# EAGLE library part SN74CB3T3384 (library mille-feuille)
10-Bit FET Bus Switch 2.5-V/3.3-V Low-Voltage Bus Switch with 5-V-Tolerant Level Shifter
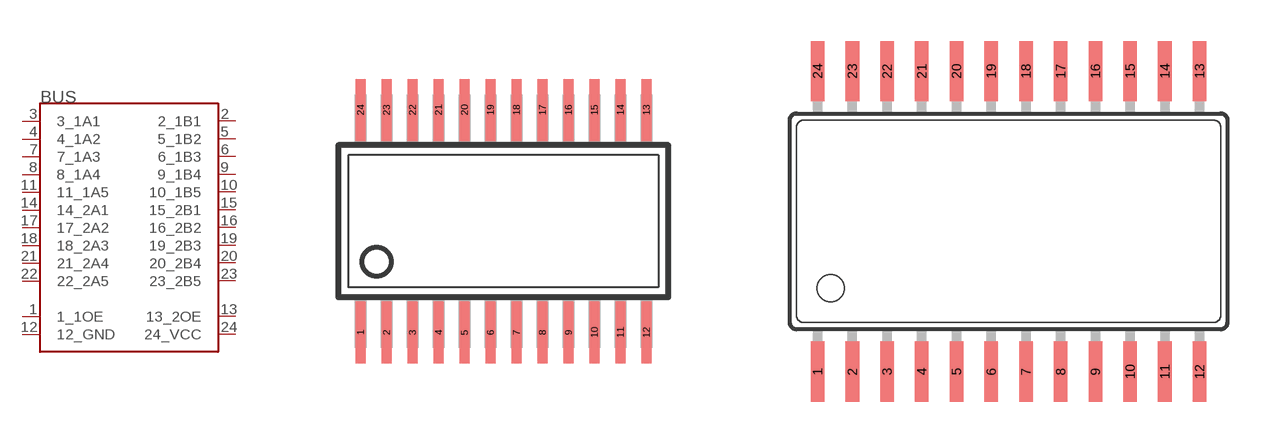
[diagram p28: symbol with the pads of TSSOP24_TI_SN74; footprints TSSOP24_TI_SN74, SOIC24]

Designator prefix BUS

## SN74CB3T3384PW  [TSSOP24_TI_SN74]
1  1_1OE  in
2  2_1B1
3  3_1A1
4  4_1A2
5  5_1B2
6  6_1B3
7  7_1A3
8  8_1A4
9  9_1B4
10  10_1B5
11  11_1A5
12  12_GND  pwr
13  13_2OE  in
14  14_2A1
15  15_2B1
16  16_2B2
17  17_2A2
18  18_2A3
19  19_2B3
20  20_2B4
21  21_2A4
22  22_2A5
23  23_2B5
24  24_VCC  pwr

## SN74CB3T3384DW  [SOIC24]
Pads as for TSSOP24_TI_SN74

## Footprint TSSOP24_TI_SN74 (pad centres in mm)
smd 0.25 x 1.55: 1 -3.575,-2.785; 2 -2.925,-2.785; 3 -2.275,-2.785; 4 -1.625,-2.785; 5 -0.975,-2.785; 6 -0.325,-2.785; 7 0.325,-2.785; 8 0.975,-2.785; 9 1.625,-2.785; 10 2.275,-2.785; 11 2.925,-2.785; 12 3.575,-2.785; 13 3.575,2.785; 14 2.925,2.785; 15 2.275,2.785; 16 1.625,2.785; 17 0.975,2.785; 18 0.325,2.785; 19 -0.325,2.785; 20 -0.975,2.785; 21 -1.625,2.785; 22 -2.275,2.785; 23 -2.925,2.785; 24 -3.575,2.785

## Footprint SOIC24 (pad centres in mm)
smd 0.5 x 2.2: 1 -6.985,-5.5; 2 -5.715,-5.5; 3 -4.445,-5.5; 4 -3.175,-5.5; 5 -1.905,-5.5; 6 -0.635,-5.5; 7 0.635,-5.5; 8 1.905,-5.5; 9 3.175,-5.5; 10 4.445,-5.5; 11 5.715,-5.5; 12 6.985,-5.5; 13 6.985,5.5; 14 5.715,5.5; 15 4.445,5.5; 16 3.175,5.5; 17 1.905,5.5; 18 0.635,5.5; 19 -0.635,5.5; 20 -1.905,5.5; 21 -3.175,5.5; 22 -4.445,5.5; 23 -5.715,5.5; 24 -6.985,5.5